# Altium integrated library Microchip PIC16 Part 1.IntLib: 1800 symbols (part 93 of 93)
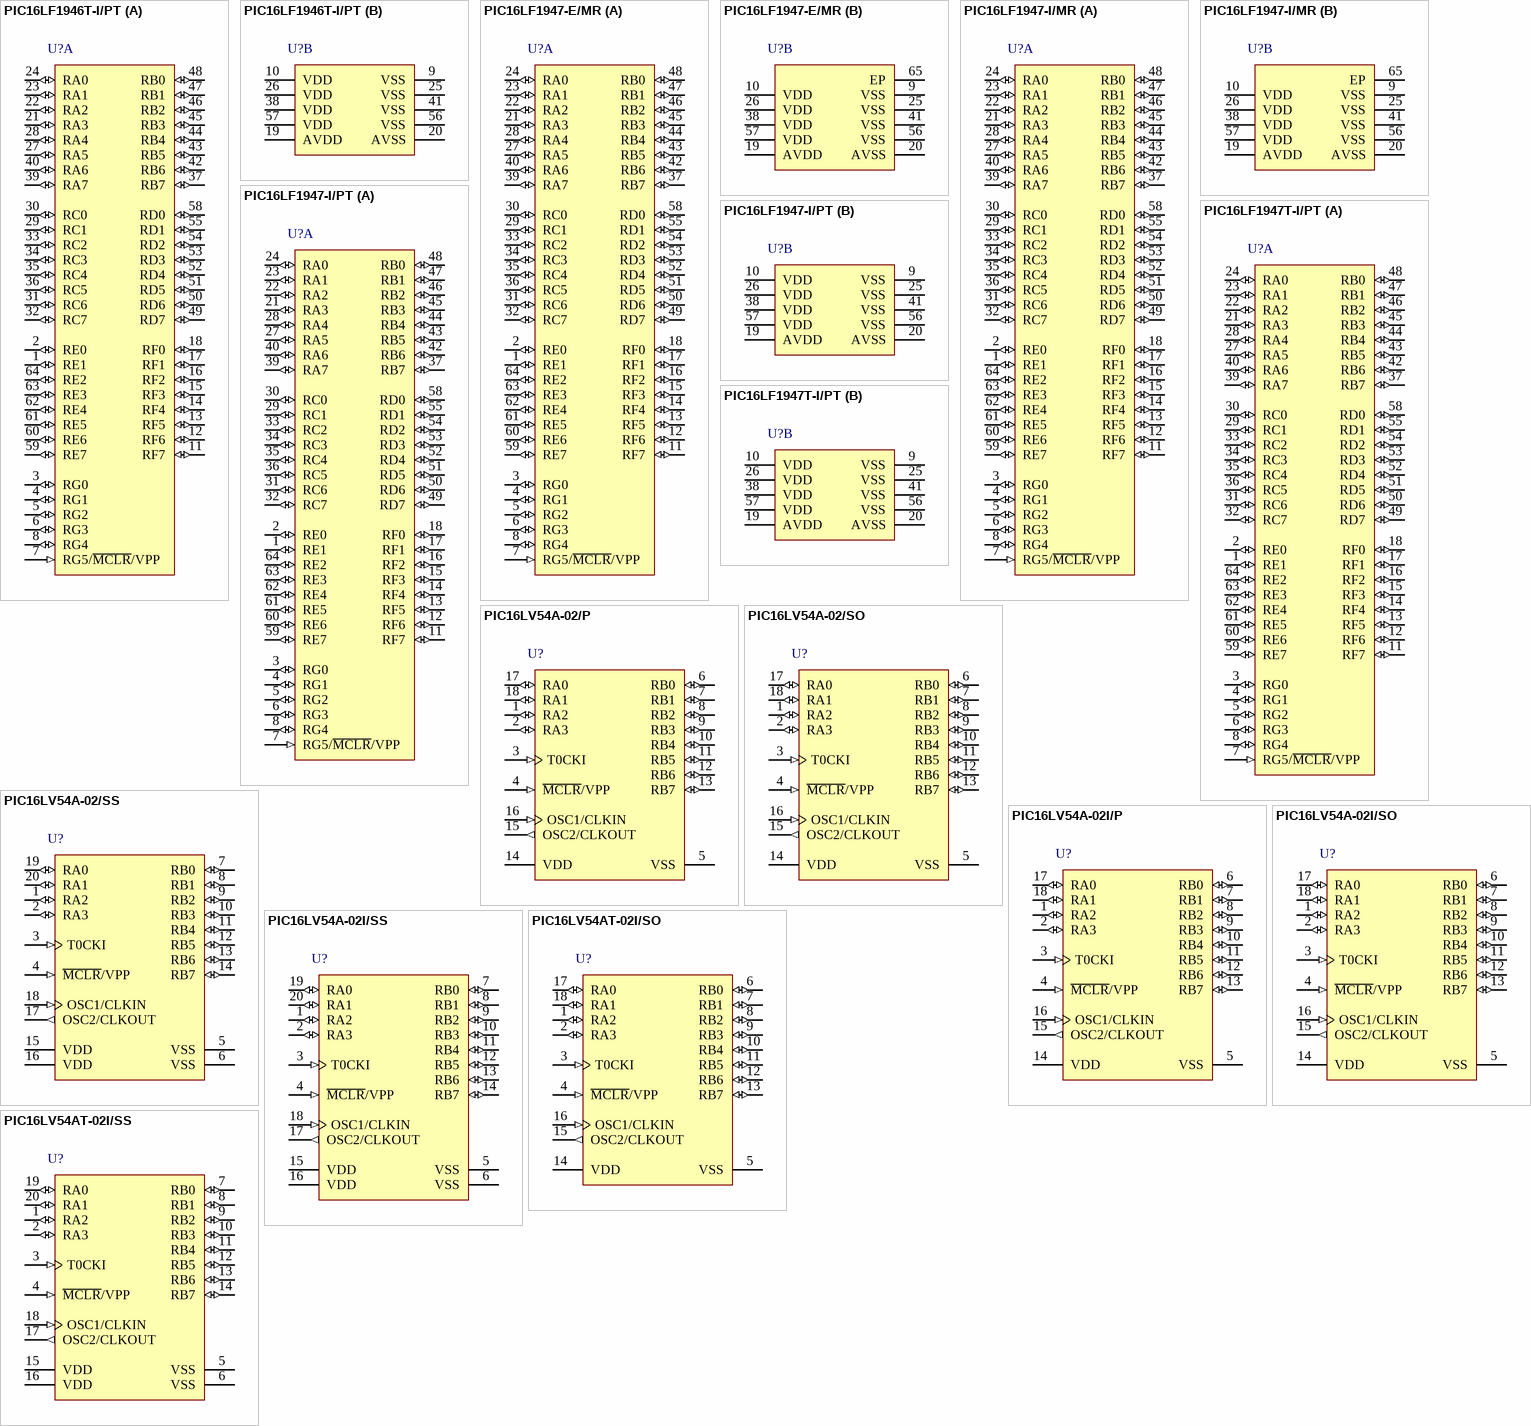
[diagram p191: symbols PIC16LF1946T-I/PT to PIC16LV54AT-02I/SS]

## PIC16LV54A-02I/SS
designator U?
EPROM / ROM-Based 8-Bit CMOS Microcontroller Series, 2 MHz, 12 I/O, -40 to 85 degC, 20-pin SSOP-SS (20), Tube; Manufacturer: Microchip; PartNumber: PIC16LV54A-02I/SS; Digital Communication: 0 -UART, 0 -A/E/USART, 0 -SPI, 0 -I2C; I/O Pins: 12; Max. CPU Speed MHz: 2; Memory Type: OTP; Operation Voltage Range: 2.0V - 3.8V; Program Memory KBytes: 0.75; Program Memory KWords: 0.5; RAM: 25; Timers: 1 - 8-bit, 0 - 16-bit, 0 - 32-bit; DatasheetVersion: Rev. KE; PackageVersion: C04-072B, 12/2012; PackageReference: SSOP-SS20; PackageDescription: 20-Lead Plastic Shrink Small Outline, 5.3 x 7.2 mm Body, 0.65 mm Pitch; Supplier 1: Digi-Key; Supplier Part Number 1: PIC16LV54A-02I/SS-ND; Supplier 2: Mouser; Supplier Part Number 2: 579-16LV54A-02I/SS; Packing: TUBE; Mounting Technology: Surface Mount; ComponentLink1Description: Datasheet; ComponentLink1URL: http://ww1.microchip.com/downloads/en/DeviceDoc/30453E.pdf; ComponentLink2Description: Package Specification; ComponentLink2URL: http://www.microchip.com/stellent/groups/techpub_sg/documents/packagingspec/en012702.pdf; ComponentLink3Description: URL Link1; ComponentLink3URL: Product URL:http://www.microchip.com/datasheet/PIC16C54A
footprint MCHP-SSOP-SS20_N (SOP, 20-Leads, Body 7.2x5.3mm, Pitch 0.65mm, IPC Medium Density)
footprint MCHP-SSOP-SS20_L (SOP, 20-Leads, Body 7.2x5.3mm, Pitch 0.65mm, IPC High Density)
footprint MCHP-SSOP-SS20_M (SOP, 20-Leads, Body 7.2x5.3mm, Pitch 0.65mm, IPC Low Density)
pins: 1 RA2 (io) "Bi-directional I/O port", 2 RA3 (io) "Bi-directional I/O port", 3 T0CKI (in) "Clock input to Timer0. Must be tied to VSS or VDD, if not in use, to reduce current consumption.", 4 ~{MCLR}/VPP (in), 5 VSS (power) "Ground reference for logic and I/O pins.", 6 VSS (power) "Ground reference for logic and I/O pins.", 7 RB0 (io) "Bi-directional I/O port", 8 RB1 (io) "Bi-directional I/O port", 9 RB2 (io) "Bi-directional I/O port", 10 RB3 (io) "Bi-directional I/O port", 11 RB4 (io) "Bi-directional I/O port", 12 RB5 (io) "Bi-directional I/O port", 13 RB6 (io) "Bi-directional I/O port", 14 RB7 (io) "Bi-directional I/O port", 15 VDD (power) "Positive supply for logic and I/O pins.", 16 VDD (power) "Positive supply for logic and I/O pins.", 17 OSC2/CLKOUT (out), 18 OSC1/CLKIN (in), 19 RA0 (io) "Bi-directional I/O port", 20 RA1 (io) "Bi-directional I/O port"

## PIC16LV54AT-02I/SO
designator U?
EPROM / ROM-Based 8-Bit CMOS Microcontroller Series, 2 MHz, 12 I/O, -40 to 85 degC, 18-pin SOIC (SO18), Tape and Reel; Manufacturer: Microchip; PartNumber: PIC16LV54AT-02I/SO; Digital Communication: 0 -UART, 0 -A/E/USART, 0 -SPI, 0 -I2C; I/O Pins: 12; Max. CPU Speed MHz: 2; Memory Type: OTP; Operation Voltage Range: 3V - 6.25V; Packing: T/R; Program Memory KBytes: 0.75; Program Memory KWords: 0.5; RAM: 25; Timers: 1 - 8-bit, 0 - 16-bit, 0 - 32-bit; DatasheetVersion: Rev. KE; PackageVersion: C04-051C, 12/2012; PackageReference: SOIC-SO18; PackageDescription: 18-Lead Plastic Small Outline, 7.5 x 11.55 mm Body, 1.27 mm Pitch; Supplier 1: Digi-Key; Supplier Part Number 1: PIC16LV54AT-02ISO-ND; Supplier 2: Mouser; Supplier Part Number 2: 579-16LV54AT-02I/SO; Mounting Technology: Surface Mount; ComponentLink1Description: Datasheet; ComponentLink1URL: http://ww1.microchip.com/downloads/en/DeviceDoc/30453E.pdf; ComponentLink2Description: Package Specification; ComponentLink2URL: http://www.microchip.com/stellent/groups/techpub_sg/documents/packagingspec/en012702.pdf; ComponentLink3Description: URL Link1; ComponentLink3URL: Product URL:http://www.microchip.com/datasheet/PIC16C54A
footprint MCHP-SOIC-SO18_N (SOIC, 18-Leads, Body 11.55x7.5mm, Pitch 1.27mm, IPC Medium Density)
footprint MCHP-SOIC-SO18_L (SOIC, 18-Leads, Body 11.55x7.5mm, Pitch 1.27mm, IPC High Density)
footprint MCHP-SOIC-SO18_M (SOIC, 18-Leads, Body 11.55x7.5mm, Pitch 1.27mm, IPC Low Density)
pins: 1 RA2 (io) "Bi-directional I/O port", 2 RA3 (io) "Bi-directional I/O port", 3 T0CKI (in) "Clock input to Timer0. Must be tied to VSS or VDD, if not in use, to reduce current consumption.", 4 ~{MCLR}/VPP (in), 5 VSS (power) "Ground reference for logic and I/O pins.", 6 RB0 (io) "Bi-directional I/O port", 7 RB1 (io) "Bi-directional I/O port", 8 RB2 (io) "Bi-directional I/O port", 9 RB3 (io) "Bi-directional I/O port", 10 RB4 (io) "Bi-directional I/O port", 11 RB5 (io) "Bi-directional I/O port", 12 RB6 (io) "Bi-directional I/O port", 13 RB7 (io) "Bi-directional I/O port", 14 VDD (power) "Positive supply for logic and I/O pins.", 15 OSC2/CLKOUT (out), 16 OSC1/CLKIN (in), 17 RA0 (io) "Bi-directional I/O port", 18 RA1 (io) "Bi-directional I/O port"

## PIC16LV54AT-02I/SS
designator U?
EPROM / ROM-Based 8-Bit CMOS Microcontroller Series, 2 MHz, 12 I/O, -40 to 85 degC, 20-pin SSOP-SS (20), Tape and Reel; Manufacturer: Microchip; PartNumber: PIC16LV54AT-02I/SS; Digital Communication: 0 -UART, 0 -A/E/USART, 0 -SPI, 0 -I2C; I/O Pins: 12; Max. CPU Speed MHz: 2; Memory Type: OTP; Operation Voltage Range: 3V - 6.25V; Packing: T/R; Program Memory KBytes: 0.75; Program Memory KWords: 0.5; RAM: 25; Timers: 1 - 8-bit, 0 - 16-bit, 0 - 32-bit; DatasheetVersion: Rev. KE; PackageVersion: C04-072B, 12/2012; PackageReference: SSOP-SS20; PackageDescription: 20-Lead Plastic Shrink Small Outline, 5.3 x 7.2 mm Body, 0.65 mm Pitch; Supplier 1: Digi-Key; Supplier Part Number 1: PIC16LV54AT-02ISS-ND; Supplier 2: Mouser; Supplier Part Number 2: 579-16LV54AT-02I/SS; Mounting Technology: Surface Mount; ComponentLink1Description: Datasheet; ComponentLink1URL: http://ww1.microchip.com/downloads/en/DeviceDoc/30453E.pdf; ComponentLink2Description: Package Specification; ComponentLink2URL: http://www.microchip.com/stellent/groups/techpub_sg/documents/packagingspec/en012702.pdf; ComponentLink3Description: URL Link1; ComponentLink3URL: Product URL:http://www.microchip.com/datasheet/PIC16C54A
footprint MCHP-SSOP-SS20_N (SOP, 20-Leads, Body 7.2x5.3mm, Pitch 0.65mm, IPC Medium Density)
footprint MCHP-SSOP-SS20_L (SOP, 20-Leads, Body 7.2x5.3mm, Pitch 0.65mm, IPC High Density)
footprint MCHP-SSOP-SS20_M (SOP, 20-Leads, Body 7.2x5.3mm, Pitch 0.65mm, IPC Low Density)
pins: 1 RA2 (io) "Bi-directional I/O port", 2 RA3 (io) "Bi-directional I/O port", 3 T0CKI (in) "Clock input to Timer0. Must be tied to VSS or VDD, if not in use, to reduce current consumption.", 4 ~{MCLR}/VPP (in), 5 VSS (power) "Ground reference for logic and I/O pins.", 6 VSS (power) "Ground reference for logic and I/O pins.", 7 RB0 (io) "Bi-directional I/O port", 8 RB1 (io) "Bi-directional I/O port", 9 RB2 (io) "Bi-directional I/O port", 10 RB3 (io) "Bi-directional I/O port", 11 RB4 (io) "Bi-directional I/O port", 12 RB5 (io) "Bi-directional I/O port", 13 RB6 (io) "Bi-directional I/O port", 14 RB7 (io) "Bi-directional I/O port", 15 VDD (power) "Positive supply for logic and I/O pins.", 16 VDD (power) "Positive supply for logic and I/O pins.", 17 OSC2/CLKOUT (out), 18 OSC1/CLKIN (in), 19 RA0 (io) "Bi-directional I/O port", 20 RA1 (io) "Bi-directional I/O port"